# Altium schematic symbol library SLW-1276864-4A-D.SchLib: 1 symbol
Pins are listed as number, name and electrical type; pins without a type are passive.

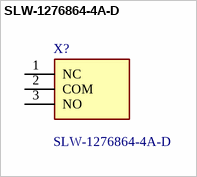
[diagram p0: symbol SLW-1276864-4A-D]

## SLW-1276864-4A-D
designator X?
12.7 x 6.8 x 6.4 mm, 2 mm Raised Slide Actuator, Vertical, Through Hole, Slide Switch; Manufacturer_Name: Same Sky; Geometry.Height: 10.6mm; Manufacturer_Part_Number: SLW-1276864-4A-D; Mouser Part Number: 179-SLW-1276864-4A-D; Mouser Price/Stock: https://www.mouser.co.uk/ProductDetail/Same-Sky/SLW-1276864-4A-D?qs=1Kr7Jg1SGW90vOt02EYiag%3D%3D; Arrow Part Number: SLW-1276864-4A-D; Arrow Price/Stock: https://www.arrow.com/en/products/slw-1276864-4a-d/cui-devices?region=nac; Datasheet Link: https://www.sameskydevices.com/product/resource/supplyframepdf/slw-1276864-4a-d.pdf
footprint SLW12768644AD
pins: 1 NC, 2 COM, 3 NO